# Altium schematic symbol library VJ1206Y103KXACW1BC.SchLib: 2 symbols
Pins are listed as number, name and electrical type; pins without a type are passive.

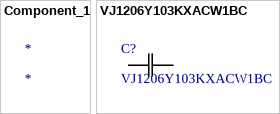
[diagram p0: symbols Component_1 to VJ1206Y103KXACW1BC]

## Component_1
designator *

## VJ1206Y103KXACW1BC
designator C?
No Description Available; Mfr_Name: Vishay; Type: DEV; Copyright: Copyright (C) 2021 Ultra Librarian. All rights reserved.; Manufacturer_Part_Number: VJ1206Y103KXACW1BC; Digi-Key_Part_Number_1: 720-1539-2-ND; Digi-Key_Part_Number_2: 720-1539-1-ND; Digi-Key_Part_Number_3: 720-1539-6-ND; RefDes: RefDes
footprint CAP_VJ1206_VIS
pins: 1, 2